# Altium schematic symbol library Library.SchLib: 7 symbols
Pins are listed as number, name and electrical type; pins without a type are passive.

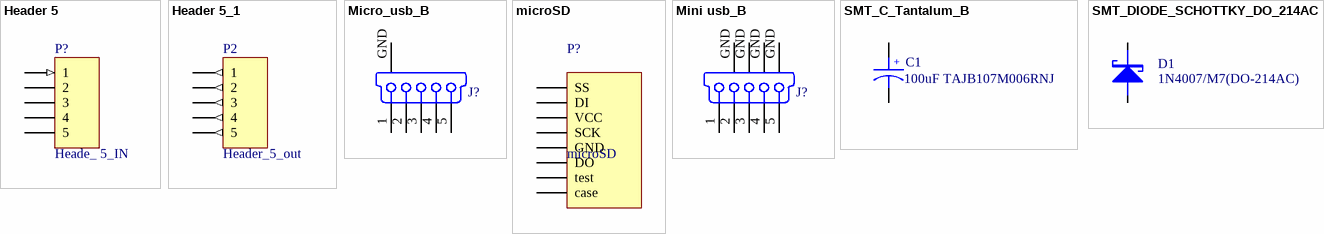
[diagram p0: symbols Header 5 to SMT_DIODE_SCHOTTKY_DO_214AC]

## Header 5
designator P?, comment Heade_ 5_IN
Header, 5-Pin; LatestRevisionDate: 17-Jul-2002; LatestRevisionNote: Re-released for DXP Platform.; Publisher: Altium Limited
footprint HDR1X5 (Connector; Header; 5 Position)
signal-integrity model Connector
pins: 1 (in), 2, 3, 4, 5

## Header 5_1
designator P2, comment Header_5_out
Header, 5-Pin; LatestRevisionDate: 17-Jul-2002; LatestRevisionNote: Re-released for DXP Platform.; Publisher: Altium Limited
footprint HDR1X5 (Connector; Header; 5 Position)
signal-integrity model Connector
pins: 1 (out), 2 (out), 3 (out), 4 (out), 5 (out)

## Micro_usb_B
designator J?
Micro_usb_B; PCB_Layout: Complies with Manufacturer's Recommendation.; Published: 21-Sep-2007; DatasheetVersion: revA, May-2004; PackageVersion: May-2004; PackageReference: 481900001; Publisher: Altium Limited; PackageDescription: USB Mini-B, Sinking Type, SM; 5 Position; Right Angle, Body 11.45 x 11.8 x 3.9 mm (LxWxH); ComponentLink1Description: Manufacturer Link; ComponentLink1URL: http://www.molex.com/; ComponentLink2Description: Datasheet; ComponentLink2URL: http://www.molex.com/cmc_upload/0/000/895/958/SD-48190-001RevA.pdf
footprint MiCro_USB_B
pins: 1 V BUS (5V) "USB Vcc [Red]", 2 D- "USB Data - [White]", 3 D+ "USB Data + [Green]", 4 NC "Not Connected (or joined to pin 5 via resistor)", 5 GND "Ground [Black]", GND Tab "Shell"

## microSD
designator P?
microSD holder; LatestRevisionDate: 17-Jul-2002; LatestRevisionNote: Re-released for DXP Platform.; Publisher: Altium Limited
footprint Micro SD holder
pins: 0 case, 2 SS, 3 DI, 4 VCC, 5 SCK, 6 GND, 7 DO, 9 test

## Mini usb_B
designator J?
Mini usb_B; PCB_Layout: Complies with Manufacturer's Recommendation.; Published: 21-Sep-2007; DatasheetVersion: revA, May-2004; PackageVersion: May-2004; PackageReference: 481900001; Publisher: Altium Limited; PackageDescription: USB Mini-B, Sinking Type, SM; 5 Position; Right Angle, Body 11.45 x 11.8 x 3.9 mm (LxWxH); ComponentLink1Description: Manufacturer Link; ComponentLink1URL: http://www.molex.com/; ComponentLink2Description: Datasheet; ComponentLink2URL: http://www.molex.com/cmc_upload/0/000/895/958/SD-48190-001RevA.pdf
signal-integrity model USB Mini-B
footprint Mini_USB_B
pins: 1 V BUS (5V) "USB Vcc [Red]", 2 D- "USB Data - [White]", 3 D+ "USB Data + [Green]", 4 NC "Not Connected (or joined to pin 5 via resistor)", 5 GND "Ground [Black]", GND Tab "Shell", GND Tab "Shell", GND Tab "Shell", GND Tab "Shell"

## SMT_C_Tantalum_B
designator C1, comment 100uF TAJB107M006RNJ
Capacitor, SM Tantalum; Body 3.5 x 2.8 mm (LxW typ)
footprint SMT_C_Tantalum_B (Capacitor, SM Tantalum; Body 3.5 x 2.8 mm (LxW typ))
pins: 1, 2
text: +

## SMT_DIODE_SCHOTTKY_DO_214AC
designator D1, comment 1N4007/M7(DO-214AC)
Surface mount schottky diode DO-214AC(SMA) Package
footprint SMT_DIODE_DO_214AC (DO-214AC(SMA) Package)
pins: 1 A, 2 K